# Altium footprint library capacitor-wima.PCBLIB: 45 footprints (part 2 of 3)
Each footprint in its own frame and in the unit in brackets; x right, y up, seen from the top. Pads: shape width x height; smd on the part's side, far side on the other; paste and mask are expansions set on the pad; w line width, h text height; cw(c..) or ccw(c..) is an arc to the next point about the centre after c.
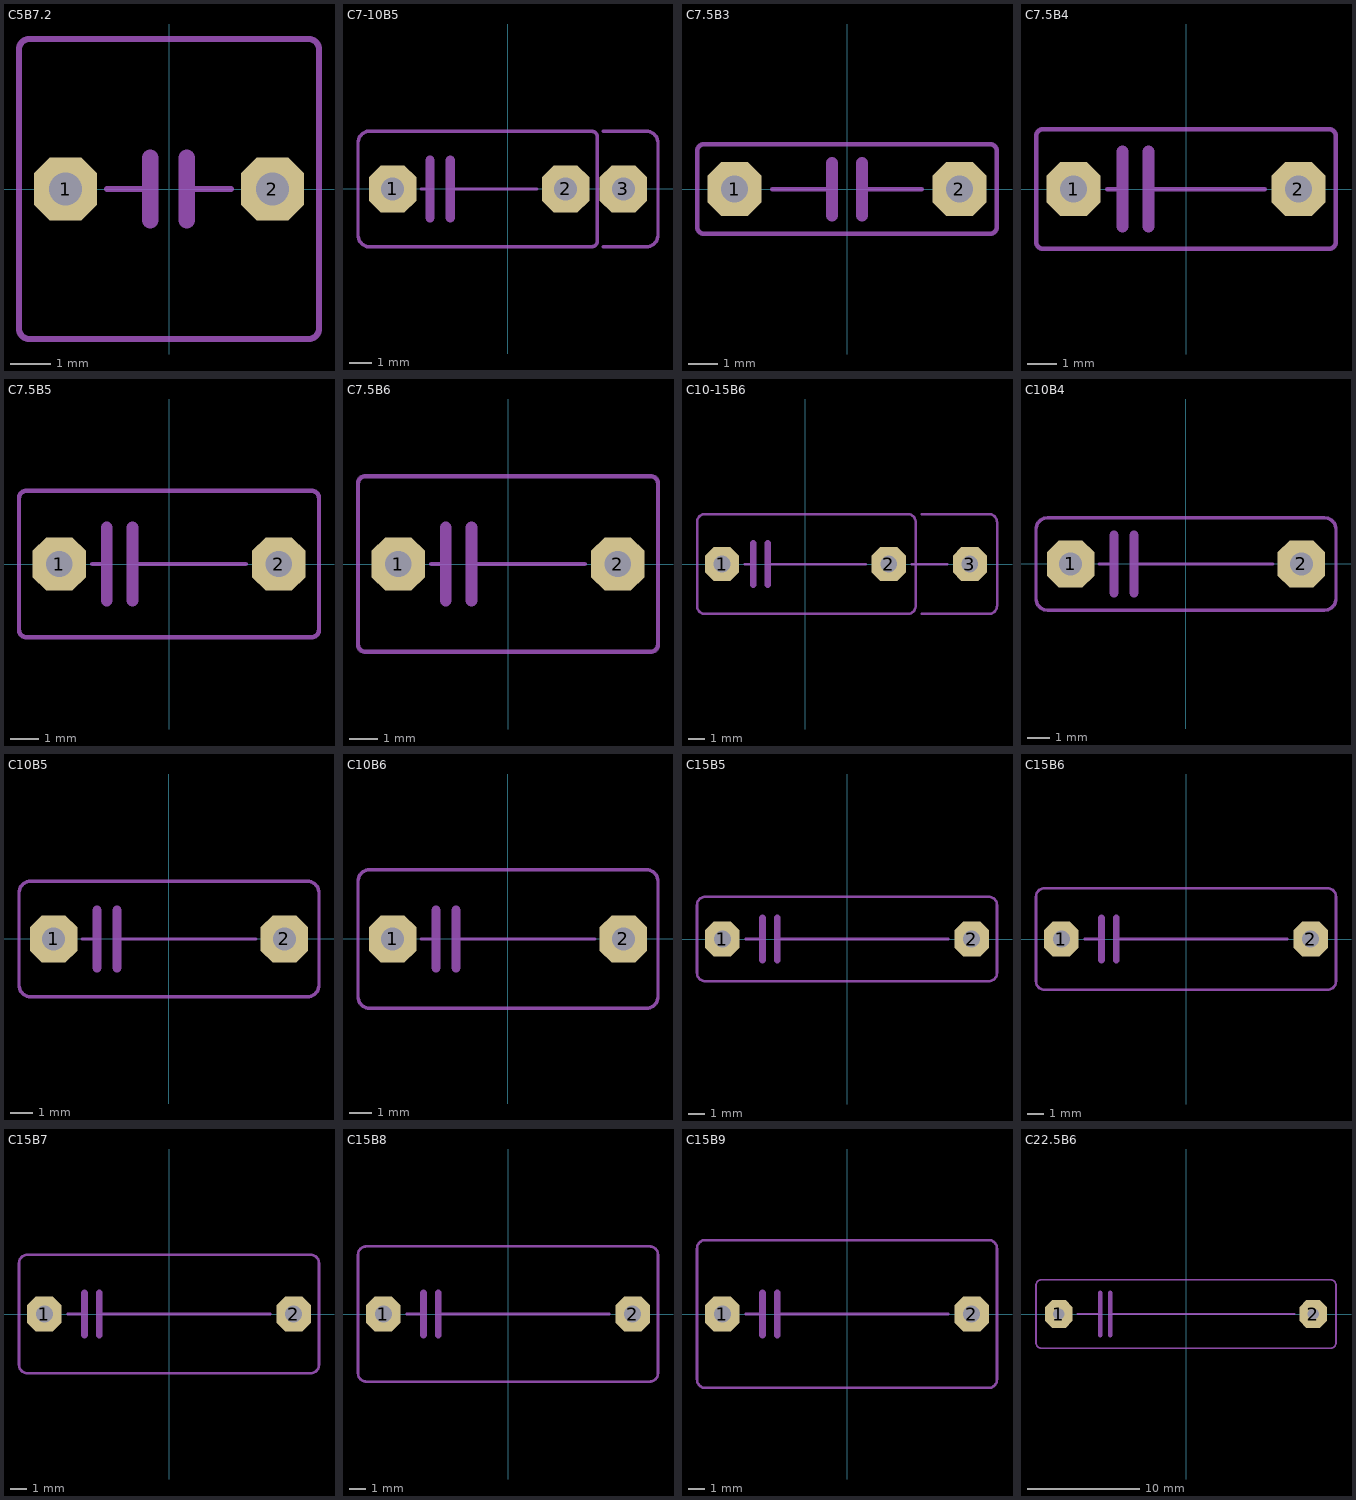
[diagram p1: the footprints below, top view; thin cyan lines are the x and y axes]

## C5B7.2 [mil]
pads (2):
  oct 61x61 hole 32: 1(-100,0) 2(100,0)
Mechanical 2:
  lines w6: -60,0 -18,0 ; 17,0 60,0 ; -145,-135 -145,135 cw(c-135,135) -135,145 135,145 cw(c135,135) 145,135 145,-135 cw(c135,-135) 135,-145 -135,-145 cw(c-135,-135) -145,-135
  lines w16: -18,-30 -18,0 -18,30 ; 17,-30 17,0 17,30

## C7-10B5 [mil]
pads (3):
  oct 82.3x82.3 hole 40: 1(-200,0) 2(100,0) 3(200,0)
Mechanical 2:
  lines w6: -245,-100 145,-100 ccw(c145,-90) 155,-90 155,-30 ; -245,100 145,100 cw(c145,90) 155,90 155,30 ; -240,-100 cw(c-240,-80) -260,-80 -260,80 cw(c-240,80) -240,100 ; -150,0 -135,0 ; -100,0 50,0 ; 165,-100 240,-100 ccw(c240,-80) 260,-80 260,80 ccw(c240,80) 240,100 165,100
  lines w16: -135,-50 -135,0 -135,50 ; -100,-50 -100,0 -100,50
Mechanical 18:
  lines w6: 155,-30 155,30

## C7.5B3 [mil]
pads (2):
  oct 72.62x72.62 hole 36: 1(-150,0) 2(150,0)
Mechanical 2:
  lines w6: -100,0 -20,0 ; 20,0 100,0 ; -200,-50 -200,50 cw(c-190,50) -190,60 190,60 cw(c190,50) 200,50 200,-50 cw(c190,-50) 190,-60 -190,-60 cw(c-190,-50) -200,-50
  lines w16: -20,-35 -20,0 -20,35 ; 20,-35 20,0 20,35

## C7.5B4 [mil]
pads (2):
  oct 72.62x72.62 hole 36: 1(-150,0) 2(150,0)
Mechanical 2:
  lines w6: -105,0 -85,0 ; -50,0 105,0 ; -200,-70 -200,70 cw(c-190,70) -190,80 190,80 cw(c190,70) 200,70 200,-70 cw(c190,-70) 190,-80 -190,-80 cw(c-190,-70) -200,-70
  lines w16: -85,-50 -85,0 -85,50 ; -50,-50 -50,0 -50,50

## C7.5B5 [mil]
pads (2):
  oct 72.62x72.62 hole 36: 1(-150,0) 2(150,0)
Mechanical 2:
  lines w6: -105,0 -85,0 ; -50,0 105,0 ; -205,-90 -205,90 cw(c-195,90) -195,100 195,100 cw(c195,90) 205,90 205,-90 cw(c195,-90) 195,-100 -195,-100 cw(c-195,-90) -205,-90
  lines w16: -85,-50 -85,0 -85,50 ; -50,-50 -50,0 -50,50

## C7.5B6 [mil]
pads (2):
  oct 72.62x72.62 hole 36: 1(-150,0) 2(150,0)
Mechanical 2:
  lines w6: -105,0 -85,0 ; -50,0 105,0 ; -205,-110 -205,110 cw(c-195,110) -195,120 195,120 cw(c195,110) 205,110 205,-110 cw(c195,-110) 195,-120 -195,-120 cw(c-195,-110) -205,-110
  lines w16: -85,-50 -85,0 -85,50 ; -50,-50 -50,0 -50,50

## C10-15B6 [mil]
pads (3):
  oct 82.3x82.3 hole 40: 1(-200,0) 2(200,0) 3(395,0)
Mechanical 2:
  lines w6: -145,0 -125,0 ; -90,0 145,0 ; 255,0 340,0 ; 280,-120 440,-120 ccw(c440,-100) 460,-100 460,100 ccw(c440,100) 440,120 280,120 ; -260,-100 -260,100 cw(c-240,100) -240,120 245,120 cw(c245,100) 265,100 265,-100 cw(c245,-100) 245,-120 -240,-120 cw(c-240,-100) -260,-100
  lines w16: -125,-50 -125,0 -125,50 ; -90,-50 -90,0 -90,50

## C10B4 [mil]
pads (2):
  oct 82.3x82.3 hole 40: 1(-200,0) 2(200,0)
Mechanical 2:
  lines w6: -150,0 -125,0 ; -90,0 150,0 ; -260,-60 -260,60 cw(c-240,60) -240,80 240,80 cw(c240,60) 260,60 260,-60 cw(c240,-60) 240,-80 -240,-80 cw(c-240,-60) -260,-60
  lines w16: -125,-50 -125,0 -125,50 ; -90,-50 -90,0 -90,50

## C10B5 [mil]
pads (2):
  oct 82.3x82.3 hole 40: 1(-200,0) 2(200,0)
Mechanical 2:
  lines w6: -150,0 -125,0 ; -90,0 150,0 ; -260,-80 -260,80 cw(c-240,80) -240,100 240,100 cw(c240,80) 260,80 260,-80 cw(c240,-80) 240,-100 -240,-100 cw(c-240,-80) -260,-80
  lines w16: -125,-50 -125,0 -125,50 ; -90,-50 -90,0 -90,50

## C10B6 [mil]
pads (2):
  oct 82.3x82.3 hole 40: 1(-200,0) 2(200,0)
Mechanical 2:
  lines w6: -150,0 -125,0 ; -90,0 150,0 ; -260,-100 -260,100 cw(c-240,100) -240,120 240,120 cw(c240,100) 260,100 260,-100 cw(c240,-100) 240,-120 -240,-120 cw(c-240,-100) -260,-100
  lines w16: -125,-50 -125,0 -125,50 ; -90,-50 -90,0 -90,50

## C15B5 [mil]
pads (2):
  oct 82.3x82.3 hole 40: 1(-295,0) 2(295,0)
Mechanical 2:
  lines w6: -240,0 -200,0 ; -165,0 240,0 ; -355,-80 -355,80 cw(c-335,80) -335,100 335,100 cw(c335,80) 355,80 355,-80 cw(c335,-80) 335,-100 -335,-100 cw(c-335,-80) -355,-80
  lines w16: -200,-50 -200,0 -200,50 ; -165,-50 -165,0 -165,50

## C15B6 [mil]
pads (2):
  oct 82.3x82.3 hole 40: 1(-295,0) 2(295,0)
Mechanical 2:
  lines w6: -240,0 -200,0 ; -165,0 240,0 ; -355,-100 -355,100 cw(c-335,100) -335,120 335,120 cw(c335,100) 355,100 355,-100 cw(c335,-100) 335,-120 -335,-120 cw(c-335,-100) -355,-100
  lines w16: -200,-50 -200,0 -200,50 ; -165,-50 -165,0 -165,50

## C15B7 [mil]
pads (2):
  oct 82.3x82.3 hole 40: 1(-295,0) 2(295,0)
Mechanical 2:
  lines w6: -240,0 -200,0 ; -165,0 240,0 ; -355,-120 -355,120 cw(c-335,120) -335,140 335,140 cw(c335,120) 355,120 355,-120 cw(c335,-120) 335,-140 -335,-140 cw(c-335,-120) -355,-120
  lines w16: -200,-50 -200,0 -200,50 ; -165,-50 -165,0 -165,50

## C15B8 [mil]
pads (2):
  oct 82.3x82.3 hole 40: 1(-295,0) 2(295,0)
Mechanical 2:
  lines w6: -240,0 -200,0 ; -165,0 240,0 ; -355,-140 -355,140 cw(c-335,140) -335,160 335,160 cw(c335,140) 355,140 355,-140 cw(c335,-140) 335,-160 -335,-160 cw(c-335,-140) -355,-140
  lines w16: -200,-50 -200,0 -200,50 ; -165,-50 -165,0 -165,50

## C15B9 [mil]
pads (2):
  oct 82.3x82.3 hole 40: 1(-295,0) 2(295,0)
Mechanical 2:
  lines w6: -240,0 -200,0 ; -165,0 240,0 ; -355,-155 -355,155 cw(c-335,155) -335,175 335,175 cw(c335,155) 355,155 355,-155 cw(c335,-155) 335,-175 -335,-175 cw(c-335,-155) -355,-155
  lines w16: -200,-50 -200,0 -200,50 ; -165,-50 -165,0 -165,50

## C22.5B6 [mil]
pads (2):
  oct 96.82x96.82 hole 40: 1(-445,0) 2(445,0)
Mechanical 2:
  lines w6: -380,0 -300,0 ; -265,0 380,0 ; -525,-100 -525,100 cw(c-505,100) -505,120 505,120 cw(c505,100) 525,100 525,-100 cw(c505,-100) 505,-120 -505,-120 cw(c-505,-100) -525,-100
  lines w16: -300,-75 -300,0 -300,75 ; -265,-75 -265,0 -265,75